# EAGLE library part CONN:RJ11 (library QuantumOptics)
RJ-11 "phone" jack.
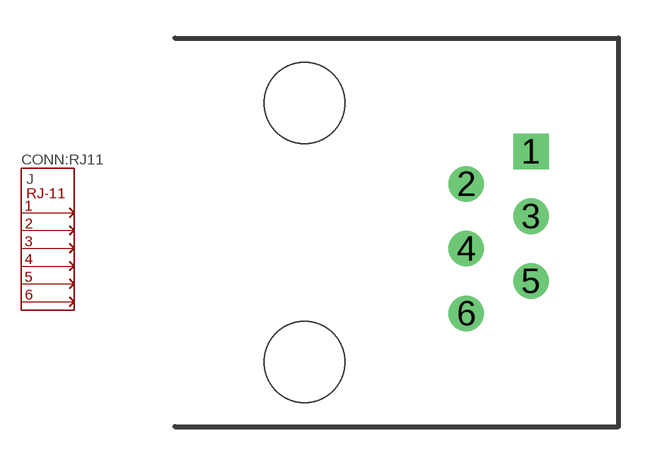
[diagram p55: symbol with the pads of CONN:RJ11; footprint CONN:RJ11]

Designator prefix J

## CONN:RJ11  [CONN:RJ11]
1  1
2  2
3  3
4  4
5  5
6  6

## Footprint CONN:RJ11 (pad centres in mm)
RJ-11 "phone" jack, AMP RJ11-2X or -4X or -6X. Uses 0.025" grid. The section hanging over the edge of the PCB is in layer 49 (Reference). http://www.cor.com/PDF/LRJ.pdf
drill 0.889 square: 1 1.27,3.175
drill 0.889: 2 -1.27,1.905; 3 1.27,0.635; 4 -1.27,-0.635; 5 1.27,-1.905; 6 -1.27,-3.175
hole 3.175 at -7.62,5.08
hole 3.175 at -7.62,-5.08